# EAGLE library part FT232B (library FTD-AON)
USB to RS232 converter 5V/3.3V
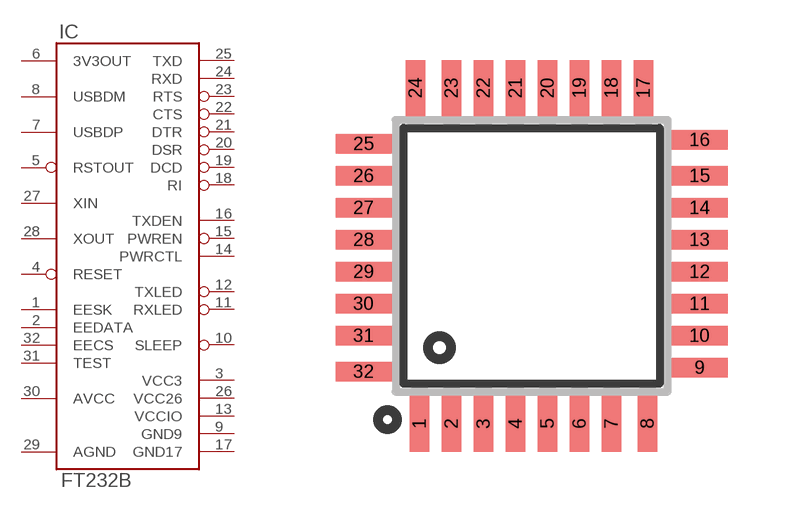
[diagram p0: symbol with the pads of SQFP-S-7X7X0.8-32; footprint SQFP-S-7X7X0.8-32]

Designator prefix IC

## FT232BM  [SQFP-S-7X7X0.8-32]
1  EESK
2  EEDATA
3  VCC3  pwr
4  RESET  in
5  RSTOUT  out
6  3V3OUT  out
7  USBDP
8  USBDM
9  GND9  pwr
10  SLEEP  out
11  RXLED  oc
12  TXLED  oc
13  VCCIO  pwr
14  PWRCTL  in
15  PWREN  out
16  TXDEN  out
17  GND17  pwr
18  RI  in
19  DCD  in
20  DSR  in
21  DTR  out
22  CTS  in
23  RTS  out
24  RXD  in
25  TXD  out
26  VCC26  pwr
27  XIN  in
28  XOUT  out
29  AGND  pwr
30  AVCC  pwr
31  TEST  in
32  EECS

## Footprint SQFP-S-7X7X0.8-32 (pad centres in mm)
Square PLASTIC QUAD FLATPACK 7x7mm 0.8mm pitch TI:VFP (S-PQFP-G32)
smd 0.48 x 1.4: 1 -2.8,-4.2; 2 -2,-4.2; 3 -1.2,-4.2; 4 -0.4,-4.2; 5 0.4,-4.2; 6 1.2,-4.2; 7 2,-4.2; 8 2.9,-4.2; 17 2.8,4.2; 18 2,4.2; 19 1.2,4.2; 20 0.4,4.2; 21 -0.4,4.2; 22 -1.2,4.2; 23 -2,4.2; 24 -2.9,4.2
smd 1.4 x 0.48: 9 4.2,-2.8; 10 4.2,-2; 11 4.2,-1.2; 12 4.2,-0.4; 13 4.2,0.4; 14 4.2,1.2; 15 4.2,2; 16 4.2,2.9; 25 -4.2,2.8; 26 -4.2,2; 27 -4.2,1.2; 28 -4.2,0.4; 29 -4.2,-0.4; 30 -4.2,-1.2; 31 -4.2,-2; 32 -4.2,-2.9